# Altium footprint library LM3478.PcbLib: 12 footprints
Each footprint in its own frame and in the unit in brackets; x right, y up, seen from the top. Pads: shape width x height; smd on the part's side, far side on the other; paste and mask are expansions set on the pad; w line width, h text height; cw(c..) or ccw(c..) is an arc to the next point about the centre after c.
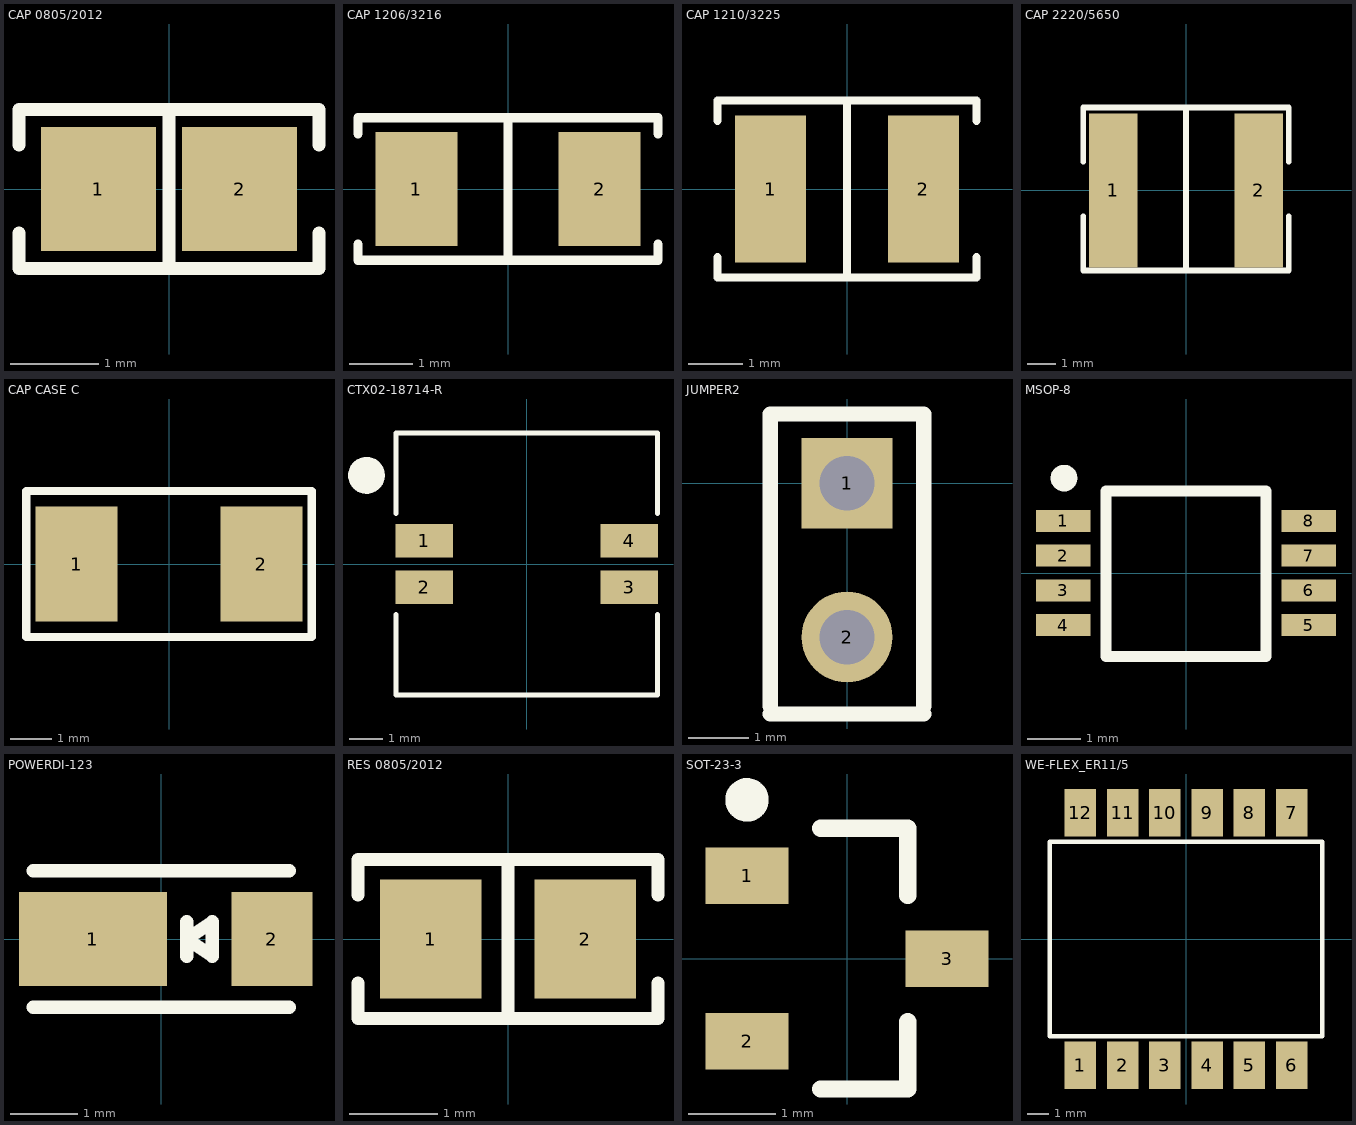
[diagram p0: the footprints below, top view; thin cyan lines are the x and y axes]

## CAP 0805/2012 [mm] "Chip Capacitor, 2-Leads, Body 2.00x1.20mm, IPC Medium Density"
height 1.15
pads (2):
  rect 1.3x1.4 smd: 1(-0.8,0) 2(0.8,0)
Top Overlay:
  lines w0.15: -1.7,-0.5 -1.7,-0.9 1.7,-0.9 1.7,-0.5 ; -1.7,0.5 -1.7,0.9 1.7,0.9 1.7,0.5 ; 0,-0.9 0,0.9
3D body "0805 cap.STEP": height 1.26, standoff -0.02, extent -1,-0.637 1,0.637

## CAP 1206/3216 [mm] "Chip Capacitor, 2-Leads, Body 3.25x1.60mm, IPC Medium Density"
height 1.2
pads (2):
  rect 1.3x1.8 smd: 1(-1.45,0) 2(1.45,0)
Top Overlay:
  lines w0.15: -2.375,-0.875 -2.375,-1.125 2.375,-1.125 2.375,-0.875 ; -2.375,0.875 -2.375,1.125 2.375,1.125 2.375,0.875 ; 0,-1.125 0,1.125
3D body "CAP 1206-1.2mm.STEP": height 1.2, standoff 0, extent -1.6,-0.8 1.6,0.8

## CAP 1210/3225 [mm] "Chip Capacitor, 2-Leads, Body 3.20x2.50mm, IPC Medium Density"
height 1.6
pads (2):
  rect 1.3x2.7 smd: 1(-1.4,0) 2(1.4,0)
Top Overlay:
  lines w0.15: -2.375,-1.25 -2.375,-1.625 2.375,-1.625 2.375,-1.25 ; -2.375,1.25 -2.375,1.625 2.375,1.625 2.375,1.25 ; 0,-1.625 0,1.625
3D body "CAP 1210-1.6mm.STEP": height 1.6, standoff 0, extent -1.6,-1.25 1.6,1.25

## CAP 2220/5650 [mm] "Chip Capacitor, 2-Leads, Body 5.70x5.00mm, IPC Medium Density"
height 2
pads (2):
  rect 1.7x5.4 smd: 1(-2.55,0) 2(2.55,0)
Top Overlay:
  lines w0.2: -3.6,-0.9 -3.6,-2.8 3.6,-2.8 3.6,-0.9 ; -3.6,1 -3.6,2.9 3.6,2.9 3.6,1 ; 0,-2.8 0,2.9
3D body "CAP 2020-2.0mm.STEP": height 2, standoff 0, extent -2.85,-2.5 2.85,2.5

## CAP CASE C [mm] "Tantalum Capacitors SMD"
height 2.6
pads (2):
  rect 2x2.8 smd: 1(-2.25,0) 2(2.25,0)
Top Overlay:
  lines w0.2: -3.475,-1.775 3.475,-1.775 3.475,1.775 -3.475,1.775 -3.475,-1.775
3D body "User Library-AVX_C_CASE.step": height 2.7, standoff 0, extent -3.05,-1.675 3.05,1.675

## CTX02-18714-R [mm]
pads (4):
  rect 1.73x1 smd: 1(-3.085,0.7) 2(-3.085,-0.7) 3(3.085,-0.7) 4(3.085,0.7)
Top Overlay:
  circle w0.6: c-4.826,2.667 r0.254
  lines w0.15: -3.937,-1.524 -3.937,-3.937 3.937,-3.937 3.937,-1.524 ; -3.937,1.524 -3.937,3.937 3.937,3.937 3.937,1.524
3D body "CTX02-18714-R v1.step": height 4.33, standoff -0.02, extent -3.8,-3.81 3.8,3.79

## JUMPER2 [mm]
pads (2):
  rect 1.5x1.5 hole 0.9: 1(0,0)
  round 1.5 hole 0.9: 2(0,-2.54)
Top Overlay:
  lines w0.254: -1.27,-3.81 1.27,-3.81 ; -1.27,-3.683 -1.27,1.143 1.27,1.143 1.27,-3.683

## MSOP-8 [mm]
pads (8):
  rect 1.02x0.41 smd: 1(-2.3,0.975) 2(-2.3,0.325) 3(-2.3,-0.325) 4(-2.3,-0.975) 5(2.3,-0.975) 6(2.3,-0.325) 7(2.3,0.325) 8(2.3,0.975)
Top Overlay:
  circle w0.25: c-2.286,1.778 r0.125
  lines w0.2: -1.5,-1.565 -1.5,1.535 1.5,1.535 1.5,-1.565 -1.5,-1.565
3D body "MSOP-8.step": height 1.15, standoff 0, extent -2.464,-1.49 2.436,1.51

## POWERDI-123 [mm]
pads (2):
  rect 2.2x1.4 smd: 1(-1.016,0)
  rect 1.2x1.4 smd: 2(1.651,0)
Top Overlay:
  lines w0.2: -1.905,-1.016 1.905,-1.016 ; -1.905,1.016 1.905,1.016 ; 0.381,-0.254 0.381,0.254 ; 0.381,0 0.762,-0.254 0.762,0.254 0.381,0
3D body "User Library-POWERDI-123.STEP": height 1, standoff 0, extent -1.95,-0.964 1.95,0.966

## RES 0805/2012 [mm] "Chip Resistor, 2-Leads, Body 2.00x1.25mm, IPC Medium Density"
height 0.7
pads (2):
  rect 1.15x1.35 smd: 1(-0.875,0) 2(0.875,0)
Top Overlay:
  lines w0.15: -1.7,-0.5 -1.7,-0.9 1.7,-0.9 1.7,-0.5 ; -1.7,0.5 -1.7,0.9 1.7,0.9 1.7,0.5 ; 0,-0.9 0,0.9
3D body "RESC-0805.stp": height 0.6, standoff 0, extent -1.05,-0.675 1.05,0.675

## SOT-23-3 [mm] "SOT23, 3-Leads, Body 2.90x2.40mm, Pitch 0.95mm, IPC Medium Density"
height 1.35
pads (3):
  rect 0.95x0.65 smd: 1(-1.15,0.95) 2(-1.15,-0.95) 3(1.15,0)
Top Overlay:
  circle w0.25: c-1.15,1.825 r0.125
  lines w0.2: -0.3,-1.5 0.7,-1.5 0.7,-0.725 ; -0.3,1.5 0.7,1.5 0.7,0.725
3D body "sot-23-3.STEP": height 1.5, standoff 0, extent -1.41,-1.45 1.411,1.45

## WE-FLEX_ER11/5 [mm] "Flexible Transformer for DC/DC Converter, size ER11/5"
height 6.2
pads (12):
  rect 1.5x2.25 smd: 1(-5,-5.975) 2(-3,-5.975) 3(-1,-5.975) 4(1,-5.975) 5(3,-5.975) 6(5,-5.975) 7(5,5.975) 8(3,5.975) 9(1,5.975) 10(-1,5.975) 11(-3,5.975) 12(-5,5.975)
Top Overlay:
  lines w0.2: -6.45,-4.6 -6.45,4.6 6.45,4.6 6.45,-4.6 -6.45,-4.6
3D body "ER 11_5.stp": height 6.2, standoff 0, extent -6.45,-6.5 6.45,6.5